# Altium schematic symbol library Battery_V2.SchLib: 9 symbols
Pins are listed as number, name and electrical type; pins without a type are passive.

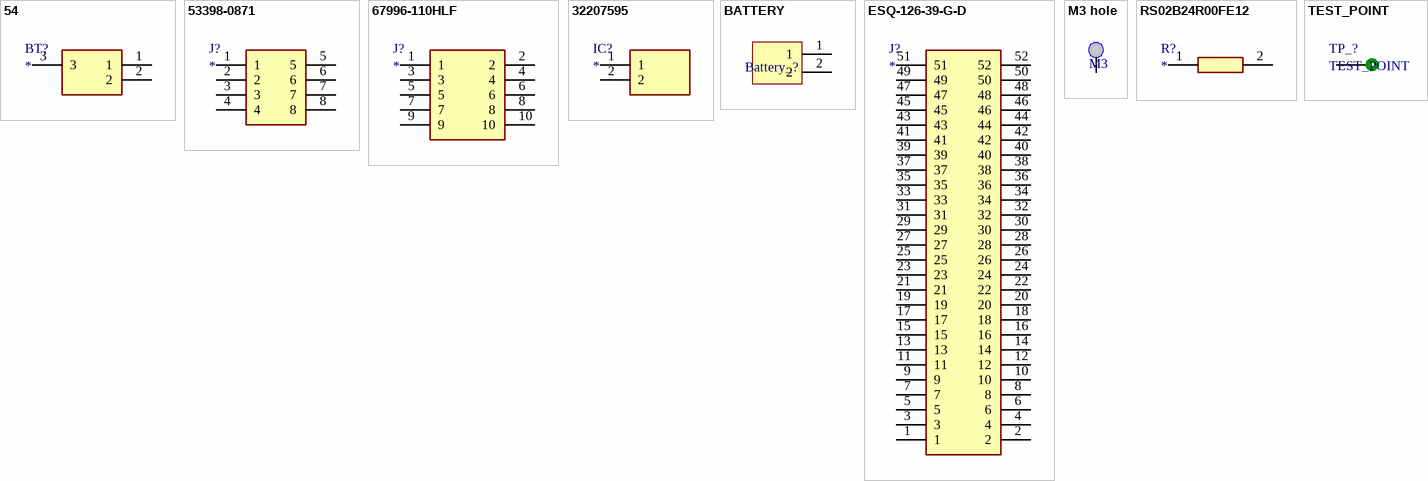
[diagram p0: symbols 54 to TEST_POINT]

## 54
designator BT?
Battery; Manufacturer_Name: Keystone Electronics; Manufacturer_Part_Number: 54; Datasheet Link: http://www.farnell.com/datasheets/1703960.pdf; Arrow Part Number: 54; Mouser Part Number: 534-54; Mouser Price/Stock: https://www.mouser.co.uk/ProductDetail/Keystone-Electronics/54?qs=73q%2FgRcW4F3NakoJDesViw%3D%3D
footprint 54
pins: 1, 2, 3

## 53398-0871
designator J?
Connector; Manufacturer_Name: Molex; Manufacturer_Part_Number: 53398-0871; Datasheet Link: http://www.molex.com/webdocs/datasheets/pdf/en-us/0533980871_PCB_HEADERS.pdf; Arrow Part Number: 53398-0871; Arrow Price/Stock: https://www.arrow.com/en/products/53398-0871/molex; Mouser Part Number: 538-53398-0871; Mouser Price/Stock: https://www.mouser.co.uk/ProductDetail/Molex/53398-0871?qs=yqtfsgZKt1RXEPdc98IXkw%3D%3D
footprint 53398-0871
pins: 1, 2, 3, 4, 5, 6, 7, 8

## 67996-110HLF
designator J?
Connector; Manufacturer_Name: SAMTEC; Manufacturer_Part_Number: 67996-110HLF; Height: 5.84mm; Mouser Part Number: 649-67996-110HLF; Mouser Price/Stock: https://br.mouser.com/ProductDetail/?qs=zh4O8xspOuxgf2RA9jR3ZQ%3D%3D
footprint HDRV10W64P254_2X5_1270X502X521P
pins: 1, 2, 3, 4, 5, 6, 7, 8, 9, 10

## 32207595
designator IC?
Integrated Circuit; Manufacturer_Name: Heraeus Nexensos; Manufacturer_Part_Number: 32207595; Datasheet Link: https://componentsearchengine.com/Datasheets/1/32207595.pdf; Height: 0.7mm; Arrow Part Number: 32207595; Mouser Part Number: 956-32207595; Mouser Price/Stock: https://www.mouser.co.uk/ProductDetail/Heraeus-Nexensos/32207595?qs=MQgg6%252BVqoaPj6oznJNIlwg%3D%3D
footprint THRMC3216X70N
pins: 1, 2

## BATTERY
designator Battery_?  (no BOM)
Battery
footprint BATTERY (Battery)
pins: 1, 2

## ESQ-126-39-G-D
designator J?
Connector; Manufacturer_Name: SAMTEC; Manufacturer_Part_Number: ESQ-126-39-G-D; Datasheet Link: http://suddendocs.samtec.com/prints/esq-1xx-xx-x-x-xxx-xx-x-xx-mkt.pdf; Arrow Part Number: ESQ-126-39-G-D; Arrow Price/Stock: https://www.arrow.com/en/products/esq-126-39-g-d/samtec; Mouser Part Number: 200-ESQ12639GD; Mouser Price/Stock: https://www.mouser.co.uk/ProductDetail/Samtec/ESQ-126-39-G-D?qs=Cqqh%252BS766wm7W672HSOlSA%3D%3D
footprint ESQ-126-Y-X-D
pins: 1, 2, 3, 4, 5, 6, 7, 8, 9, 10, 11, 12, 13, 14, 15, 16, 17, 18, 19, 20, 21, 22, 23, 24, 25, 26, 27, 28, 29, 30, 31, 32, 33, 34, 35, 36, 37, 38, 39, 40, 41, 42, 43, 44, 45, 46, 47, 48, 49, 50, 51, 52

## M3 hole
designator MEC?, comment M3  (no BOM)
M3 hole
footprint M3 hole
pins: 0

## RS02B24R00FE12
designator R?
Resistor; Manufacturer_Name: Vishay; Manufacturer_Part_Number: RS02B24R00FE12; Datasheet Link: https://www.vishay.com/docs/30204/rsns.pdf; Arrow Part Number: RS02B24R00FE12
footprint RESAD3322W86L1422D475
pins: 1, 2

## TEST_POINT
designator TP_?
Test Point
footprint Test_Point
pins: 1